# Altium schematic symbol library LM2596.SchLib: 1 symbol
Pins are listed as number, name and electrical type; pins without a type are passive.

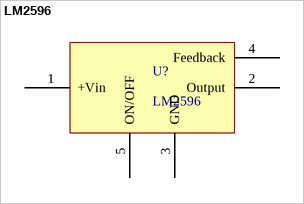
[diagram p0: symbol LM2596]

## LM2596
designator U?
pins: 1 +Vin, 2 Output, 3 GND, 4 Feedback, 5 ON/OFF